# Altium integrated library RELAY.IntLib: 1 symbol
Pins are listed as number, name and electrical type; pins without a type are passive.

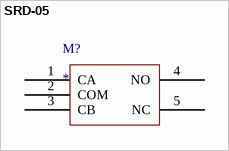
[diagram p0: symbol SRD-05]

## SRD-05
designator M?
footprint SRD-05
pins: 1 CA, 2 COM, 3 CB, 4 NO, 5 NC